# Altium footprint library Terminal_Block.PcbLib: 61 footprints (part 3 of 4)
Each footprint in its own frame and in the unit in brackets; x right, y up, seen from the top. Pads: shape width x height; smd on the part's side, far side on the other; paste and mask are expansions set on the pad; w line width, h text height; cw(c..) or ccw(c..) is an arc to the next point about the centre after c.
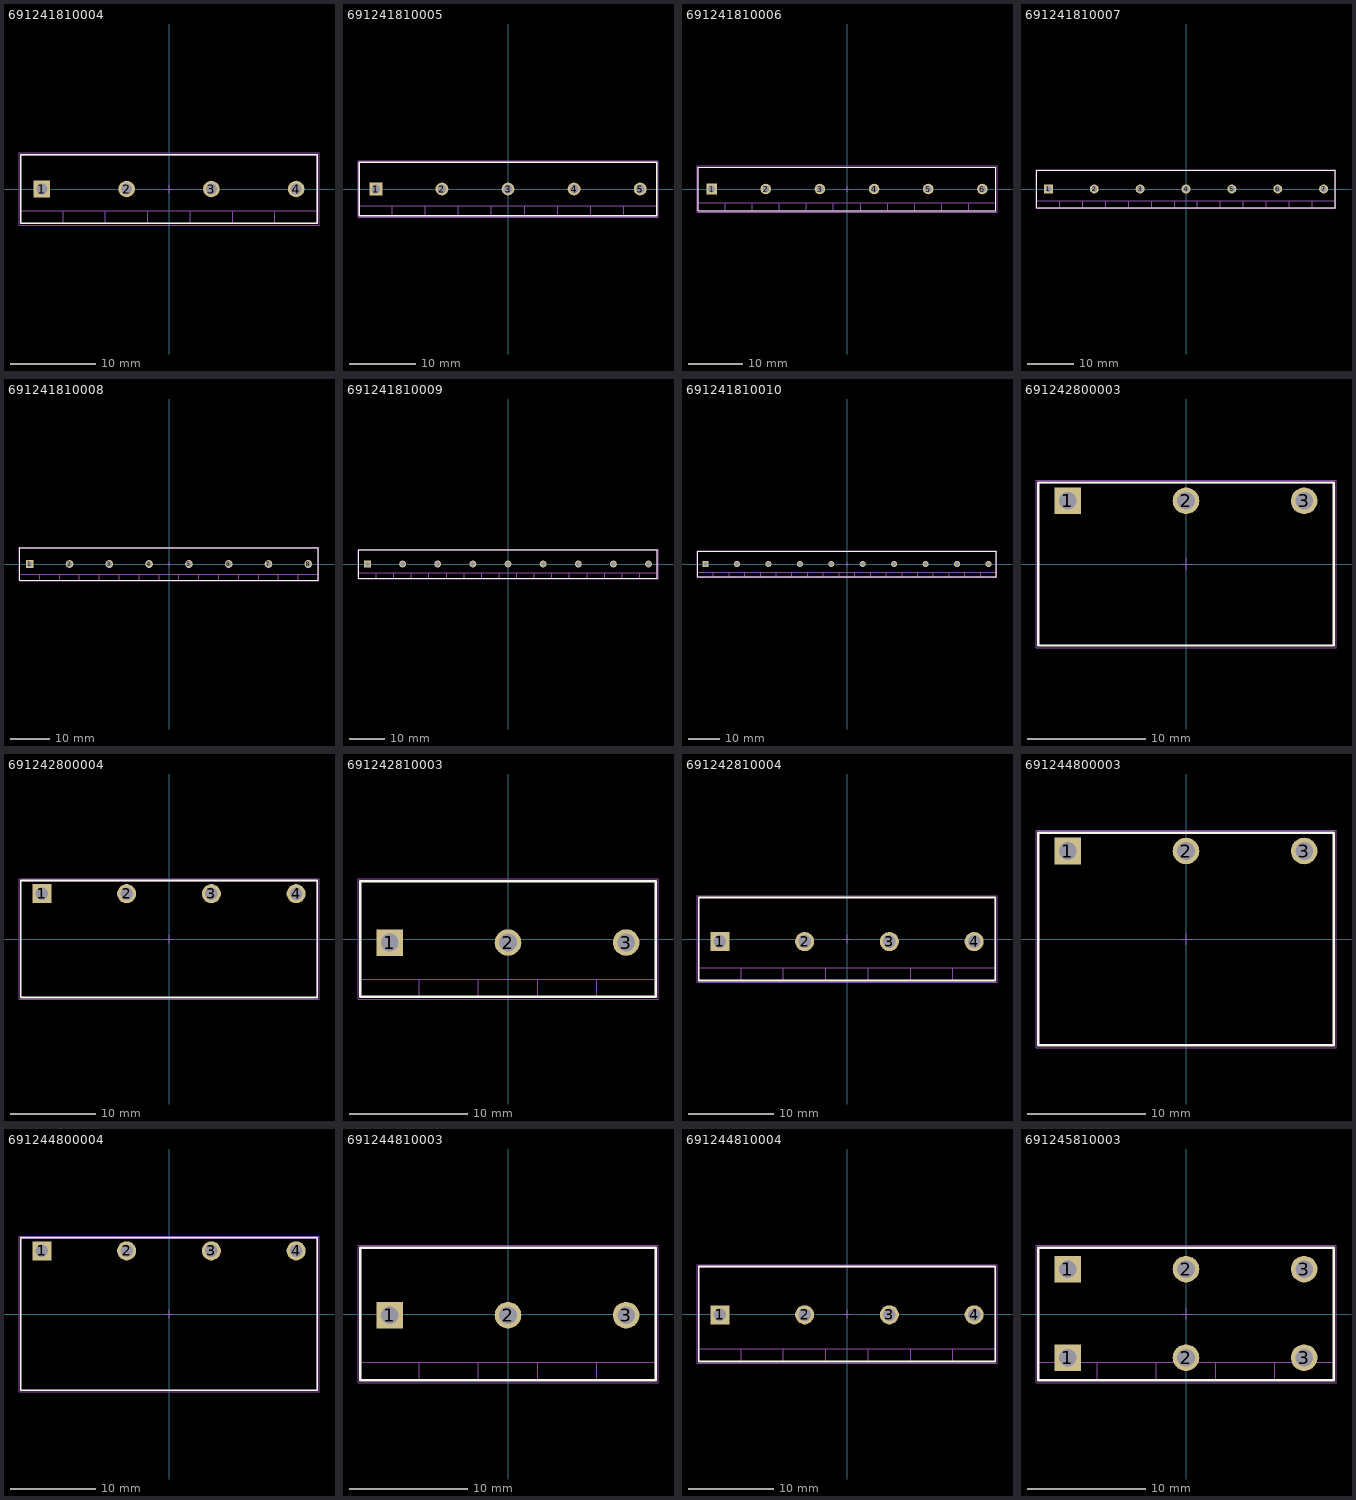
[diagram p2: the footprints below, top view; thin cyan lines are the x and y axes]

## 691241810004 [mm] "10.00mm Horizontal Cable Entry with Rising Cage Clamp, 04p"
height 10
pads (4):
  rect 1.95x1.95 hole 1.3: 1(-15,0)
  round 1.95 hole 1.3: 2(-5,0) 3(5,0) 4(15,0)
Top Overlay:
  lines w0.2: -17.5,-4.05 -17.5,4.05 17.5,4.05 17.5,-4.05 -17.5,-4.05
Mechanical 13:
  lines w0.1: -17.5,-2.55 17.5,-2.55 ; -12.5,-4.05 -12.5,-2.55 ; -7.5,-4.05 -7.5,-2.55 ; -2.5,-4.05 -2.5,-2.55 ; 2.5,-4.05 2.5,-2.55 ; 7.5,-4.05 7.5,-2.55 ; 12.5,-4.05 12.5,-2.55 ; -17.5,-4.05 17.5,-4.05 17.5,4.05 -17.5,4.05 -17.5,-4.05
Mechanical 15:
  lines w0.05: -0.5,0 0.5,0 ; 0,-0.5 0,0.5 ; -17.7,-4.25 -17.7,4.25 17.7,4.25 17.7,-4.25 -17.7,-4.25
3D body "691241810004.stp": height 10.1, standoff -3.4, extent -17.5,-4.05 17.5,4.05

## 691241810005 [mm] "10.00mm Horizontal Cable Entry with Rising Cage Clamp, 05p"
height 10
pads (5):
  rect 1.95x1.95 hole 1.3: 1(-20,0)
  round 1.95 hole 1.3: 2(-10,0) 3(0,0) 4(10,0) 5(20,0)
Top Overlay:
  lines w0.2: -22.5,-4.05 22.5,-4.05 22.5,4.05 -22.5,4.05 -22.5,-4.05
Mechanical 13:
  lines w0.1: -22.5,-2.55 22.5,-2.55 ; -17.5,-4.05 -17.5,-2.55 ; -12.5,-4.05 -12.5,-2.55 ; -7.5,-4.05 -7.5,-2.55 ; -2.5,-4.05 -2.5,-2.55 ; 2.5,-4.05 2.5,-2.55 ; 7.5,-4.05 7.5,-2.55 ; 12.5,-4.05 12.5,-2.55 ; 17.5,-4.05 17.5,-2.55 ; -22.5,-4.05 -22.5,4.05 22.5,4.05 22.5,-4.05 -22.5,-4.05
Mechanical 15:
  lines w0.05: -0.5,0 0.5,0 ; 0,-0.5 0,0.5 ; -22.7,-4.25 22.7,-4.25 22.7,4.25 -22.7,4.25 -22.7,-4.25
3D body "691241810005.stp": height 10.1, standoff -3.4, extent -22.5,-4.05 22.5,4.05

## 691241810006 [mm] "10.00mm Horizontal Cable Entry with Rising Cage Clamp, 06p"
height 10
pads (6):
  rect 1.95x1.95 hole 1.3: 1(-25,0)
  round 1.95 hole 1.3: 2(-15,0) 3(-5,0) 4(5,0) 5(15,0) 6(25,0)
Top Overlay:
  lines w0.2: -27.5,-4.05 -27.5,4.05 27.5,4.05 27.5,-4.05 -27.5,-4.05
Mechanical 13:
  lines w0.1: -27.5,-2.55 27.5,-2.55 ; -22.5,-4.05 -22.5,-2.55 ; -17.5,-4.05 -17.5,-2.55 ; -12.5,-4.05 -12.5,-2.55 ; -7.5,-4.05 -7.5,-2.55 ; -2.5,-4.05 -2.5,-2.55 ; 2.5,-4.05 2.5,-2.55 ; 7.5,-4.05 7.5,-2.55 ; 12.5,-4.05 12.5,-2.55 ; 17.5,-4.05 17.5,-2.55 ; 22.5,-4.05 22.5,-2.55 ; -27.5,-4.05 27.5,-4.05 27.5,4.05 -27.5,4.05 -27.5,-4.05
Mechanical 15:
  lines w0.05: -0.5,0 0.5,0 ; 0,-0.5 0,0.5 ; -27.7,-4.25 -27.7,4.25 27.7,4.25 27.7,-4.25 -27.7,-4.25
3D body "691241810006.stp": height 10.1, standoff -3.4, extent -27.5,-4.05 27.5,4.05

## 691241810007 [mm] "10.00mm Horizontal Cable Entry with Rising Cage Clamp, 07p"
height 10
pads (7):
  rect 1.95x1.95 hole 1.3: 1(-30,0)
  round 1.95 hole 1.3: 2(-20,0) 3(-10,0) 4(0,0) 5(10,0) 6(20,0) 7(30,0)
Top Overlay:
  lines w0.2: -32.5,-4.05 32.5,-4.05 32.5,4.05 -32.5,4.05 -32.5,-4.05
Mechanical 13:
  lines w0.1: -32.5,-2.55 32.5,-2.55 ; -27.5,-4.05 -27.5,-2.55 ; -22.5,-4.05 -22.5,-2.55 ; -17.5,-4.05 -17.5,-2.55 ; -12.5,-4.05 -12.5,-2.55 ; -7.5,-4.05 -7.5,-2.55 ; -2.5,-4.05 -2.5,-2.55 ; 2.5,-4.05 2.5,-2.55 ; 7.5,-4.05 7.5,-2.55 ; 12.5,-4.05 12.5,-2.55 ; 17.5,-4.05 17.5,-2.55 ; 22.5,-4.05 22.5,-2.55 ; 27.5,-4.05 27.5,-2.55 ; -32.5,-4.05 -32.5,4.05 32.5,4.05 32.5,-4.05 -32.5,-4.05
Mechanical 15:
  lines w0.05: -0.5,0 0.5,0 ; 0,-0.5 0,0.5 ; -32.7,-4.25 32.7,-4.25 32.7,4.25 -32.7,4.25 -32.7,-4.25
3D body "691241810007.stp": height 10.1, standoff -3.4, extent -32.5,-4.05 32.5,4.05

## 691241810008 [mm] "10.00mm Horizontal Cable Entry with Rising Cage Clamp, 08p"
height 10
pads (8):
  rect 1.95x1.95 hole 1.3: 1(-35,0)
  round 1.95 hole 1.3: 2(-25,0) 3(-15,0) 4(-5,0) 5(5,0) 6(15,0) 7(25,0) 8(35,0)
Top Overlay:
  lines w0.2: -37.5,-4.05 37.5,-4.05 37.5,4.05 -37.5,4.05 -37.5,-4.05
Mechanical 13:
  lines w0.1: -37.5,-2.55 37.5,-2.55 ; -32.5,-4.05 -32.5,-2.55 ; -27.5,-4.05 -27.5,-2.55 ; -22.5,-4.05 -22.5,-2.55 ; -17.5,-4.05 -17.5,-2.55 ; -12.5,-4.05 -12.5,-2.55 ; -7.5,-4.05 -7.5,-2.55 ; -2.5,-4.05 -2.5,-2.55 ; 2.5,-4.05 2.5,-2.55 ; 7.5,-4.05 7.5,-2.55 ; 12.5,-4.05 12.5,-2.55 ; 17.5,-4.05 17.5,-2.55 ; 22.5,-4.05 22.5,-2.55 ; 27.5,-4.05 27.5,-2.55 ; 32.5,-4.05 32.5,-2.55 ; -37.5,-4.05 -37.5,4.05 37.5,4.05 37.5,-4.05 -37.5,-4.05
Mechanical 15:
  lines w0.05: -0.5,0 0.5,0 ; 0,-0.5 0,0.5 ; -37.7,-4.25 37.7,-4.25 37.7,4.25 -37.7,4.25 -37.7,-4.25
3D body "691241810008.stp": height 10.1, standoff -3.4, extent -37.5,-4.05 37.5,4.05

## 691241810009 [mm] "10.00mm Horizontal Cable Entry with Rising Cage Clamp, 09p"
height 10
pads (9):
  rect 1.95x1.95 hole 1.3: 1(-40,0)
  round 1.95 hole 1.3: 2(-30,0) 3(-20,0) 4(-10,0) 5(0,0) 6(10,0) 7(20,0) 8(30,0) 9(40,0)
Top Overlay:
  lines w0.2: -42.5,-4.05 42.5,-4.05 42.5,4.05 -42.5,4.05 -42.5,-4.05
Mechanical 13:
  lines w0.1: -42.5,-2.55 42.5,-2.55 ; -37.5,-4.05 -37.5,-2.55 ; -32.5,-4.05 -32.5,-2.55 ; -27.5,-4.05 -27.5,-2.55 ; -22.5,-4.05 -22.5,-2.55 ; -17.5,-4.05 -17.5,-2.55 ; -12.5,-4.05 -12.5,-2.55 ; -7.5,-4.05 -7.5,-2.55 ; -2.5,-4.05 -2.5,-2.55 ; 2.5,-4.05 2.5,-2.55 ; 7.5,-4.05 7.5,-2.55 ; 12.5,-4.05 12.5,-2.55 ; 17.5,-4.05 17.5,-2.55 ; 22.5,-4.05 22.5,-2.55 ; 27.5,-4.05 27.5,-2.55 ; 32.5,-4.05 32.5,-2.55 ; 37.5,-4.05 37.5,-2.55 ; -42.5,-4.05 -42.5,4.05 42.5,4.05 42.5,-4.05 -42.5,-4.05
Mechanical 15:
  lines w0.05: -0.5,0 0.5,0 ; 0,-0.5 0,0.5 ; -42.7,-4.25 42.7,-4.25 42.7,4.25 -42.7,4.25 -42.7,-4.25
3D body "691241810009.stp": height 10.1, standoff -3.4, extent -42.5,-4.05 42.5,4.05

## 691241810010 [mm] "10.00mm Horizontal Cable Entry with Rising Cage Clamp, 10p"
height 10
pads (10):
  rect 1.95x1.95 hole 1.3: 1(-45,0)
  round 1.95 hole 1.3: 2(-35,0) 3(-25,0) 4(-15,0) 5(-5,0) 6(5,0) 7(15,0) 8(25,0) 9(35,0) 10(45,0)
Top Overlay:
  lines w0.2: -47.5,-4.05 47.5,-4.05 47.5,4.05 -47.5,4.05 -47.5,-4.05
Mechanical 13:
  lines w0.1: -47.5,-2.55 47.5,-2.55 ; -42.5,-4.05 -42.5,-2.55 ; -37.5,-4.05 -37.5,-2.55 ; -32.5,-4.05 -32.5,-2.55 ; -27.5,-4.05 -27.5,-2.55 ; -22.5,-4.05 -22.5,-2.55 ; -17.5,-4.05 -17.5,-2.55 ; -12.5,-4.05 -12.5,-2.55 ; -7.5,-4.05 -7.5,-2.55 ; -2.5,-4.05 -2.5,-2.55 ; 2.5,-4.05 2.5,-2.55 ; 7.5,-4.05 7.5,-2.55 ; 12.5,-4.05 12.5,-2.55 ; 17.5,-4.05 17.5,-2.55 ; 22.5,-4.05 22.5,-2.55 ; 27.5,-4.05 27.5,-2.55 ; 32.5,-4.05 32.5,-2.55 ; 37.5,-4.05 37.5,-2.55 ; 42.5,-4.05 42.5,-2.55 ; -47.5,-4.05 -47.5,4.05 47.5,4.05 47.5,-4.05 -47.5,-4.05
Mechanical 15:
  lines w0.05: -0.5,0 0.5,0 ; 0,-0.5 0,0.5 ; -47.7,-4.25 47.7,-4.25 47.7,4.25 -47.7,4.25 -47.7,-4.25
3D body "691241810010.stp": height 10.1, standoff -3.4, extent -47.5,-4.05 47.5,4.05

## 691242800003 [mm] "Serie 2428-10.00mm Vertical Cable Entry with Rising Cage Clamp, 3 pins"
height 9
pads (3):
  rect 2.25x2.25 hole 1.5: 1(-10,5.35)
  round 2.25 hole 1.5: 2(0,5.35) 3(10,5.35)
Top Overlay:
  lines w0.2: -12.5,-6.9 -12.5,6.9 12.5,6.9 12.5,-6.9 -12.5,-6.9
Mechanical 13:
  lines w0.1: -12.5,-6.9 12.5,-6.9 12.5,6.9 -12.5,6.9 -12.5,-6.9
Mechanical 15:
  lines w0.05: -0.5,0 0.5,0 ; 0,-0.5 0,0.5 ; -12.7,-7.1 -12.7,7.1 12.7,7.1 12.7,-7.1 -12.7,-7.1
3D body "691242800003.stp": height 10, standoff -3.3, extent -12.5,-6.9 12.5,6.9

## 691242800004 [mm] "Serie 2428-10.00mm Vertical Cable Entry with Rising Cage Clamp, 4 pins"
height 9
pads (4):
  rect 2.25x2.25 hole 1.5: 1(-15,5.35)
  round 2.25 hole 1.5: 2(-5,5.35) 3(5,5.35) 4(15,5.35)
Top Overlay:
  lines w0.2: -17.5,-6.9 17.5,-6.9 17.5,6.9 -17.5,6.9 -17.5,-6.9
Mechanical 13:
  lines w0.1: -17.5,-6.9 -17.5,6.9 17.5,6.9 17.5,-6.9 -17.5,-6.9
Mechanical 15:
  lines w0.05: -0.5,0 0.5,0 ; 0,-0.5 0,0.5 ; -17.7,-7.1 17.7,-7.1 17.7,7.1 -17.7,7.1 -17.7,-7.1
3D body "691242800004.stp": height 10, standoff -3.3, extent -17.5,-6.9 17.5,6.9

## 691242810003 [mm] "Serie 2428 - 10.00 mm _ 3 pins"
height 13.8
pads (3):
  rect 2.25x2.25 hole 1.5: 1(-10,-0.3)
  round 2.25 hole 1.5: 2(0,-0.3) 3(10,-0.3)
Top Overlay:
  lines w0.2: -12.5,-4.9 12.5,-4.9 12.5,4.9 -12.5,4.9 -12.5,-4.9
Mechanical 13:
  lines w0.1: -12.5,-3.4 12.5,-3.4 ; -7.5,-4.9 -7.5,-3.4 ; -2.5,-4.9 -2.5,-3.4 ; 2.5,-4.9 2.5,-3.4 ; 7.5,-4.9 7.5,-3.4 ; -12.5,-4.9 -12.5,4.9 12.5,4.9 12.5,-4.9 -12.5,-4.9
Mechanical 15:
  lines w0.05: -0.5,0 0.5,0 ; 0,-0.5 0,0.5 ; -12.7,-5.1 12.7,-5.1 12.7,5.1 -12.7,5.1 -12.7,-5.1
3D body "691242810003.stp": height 13.9, standoff -3.4, extent -12.5,-4.9 12.5,4.9

## 691242810004 [mm] "Serie 2428 - 10.00 mm _ 4 pins"
height 13.8
pads (4):
  rect 2.25x2.25 hole 1.5: 1(-15,-0.3)
  round 2.25 hole 1.5: 2(-5,-0.3) 3(5,-0.3) 4(15,-0.3)
Top Overlay:
  lines w0.2: -17.5,-4.9 17.5,-4.9 17.5,4.9 -17.5,4.9 -17.5,-4.9
Mechanical 13:
  lines w0.1: -17.5,-3.4 17.5,-3.4 ; -12.5,-4.9 -12.5,-3.4 ; -7.5,-4.9 -7.5,-3.4 ; -2.5,-4.9 -2.5,-3.4 ; 2.5,-4.9 2.5,-3.4 ; 7.5,-4.9 7.5,-3.4 ; 12.5,-4.9 12.5,-3.4 ; -17.5,-4.9 -17.5,4.9 17.5,4.9 17.5,-4.9 -17.5,-4.9
Mechanical 15:
  lines w0.05: -0.5,0 0.5,0 ; 0,-0.5 0,0.5 ; -17.7,-5.1 17.7,-5.1 17.7,5.1 -17.7,5.1 -17.7,-5.1
3D body "691242810004.stp": height 13.9, standoff -3.4, extent -17.5,-4.9 17.5,4.9

## 691244800003 [mm] "Serie 2448 - 10.00 mm _ 3 pins"
height 11.2
pads (3):
  rect 2.25x2.25 hole 1.5: 1(-10,7.45)
  round 2.25 hole 1.5: 2(0,7.45) 3(10,7.45)
Top Overlay:
  lines w0.2: -12.5,-9 -12.5,9 12.5,9 12.5,-9 -12.5,-9
Mechanical 13:
  lines w0.1: -12.5,-9 12.5,-9 12.5,9 -12.5,9 -12.5,-9
Mechanical 15:
  lines w0.05: -0.5,0 0.5,0 ; 0,-0.5 0,0.5 ; -12.7,-9.2 -12.7,9.2 12.7,9.2 12.7,-9.2 -12.7,-9.2
3D body "691244800003.stp": height 11.3, standoff -3.9, extent -12.5,-9.05 12.5,8.95

## 691244800004 [mm] "Serie 2448 - 10.00 mm _ 4 pins"
height 11.2
pads (4):
  rect 2.25x2.25 hole 1.5: 1(-15,7.45)
  round 2.25 hole 1.5: 2(-5,7.45) 3(5,7.45) 4(15,7.45)
Top Overlay:
  lines w0.2: -17.5,-9 17.5,-9 17.5,9 -17.5,9 -17.5,-9
Mechanical 13:
  lines w0.1: -17.5,-9 -17.5,9 17.5,9 17.5,-9 -17.5,-9
Mechanical 15:
  lines w0.05: -0.5,0 0.5,0 ; 0,-0.5 0,0.5 ; -17.7,-9.2 17.7,-9.2 17.7,9.2 -17.7,9.2 -17.7,-9.2
3D body "691244800004.stp": height 11.3, standoff -3.9, extent -17.5,-9.05 17.5,8.95

## 691244810003 [mm] "Serie 2448 - 10.00 mm _ 3 pins"
height 18
pads (3):
  rect 2.25x2.25 hole 1.5: 1(-10,-0.1)
  round 2.25 hole 1.5: 2(0,-0.1) 3(10,-0.1)
Top Overlay:
  lines w0.2: -12.5,-5.6 12.5,-5.6 12.5,5.6 -12.5,5.6 -12.5,-5.6
Mechanical 13:
  lines w0.1: -12.5,-4.1 12.5,-4.1 ; -7.5,-5.6 -7.5,-4.1 ; -2.5,-5.6 -2.5,-4.1 ; 2.5,-5.6 2.5,-4.1 ; 7.5,-5.6 7.5,-4.1 ; -12.5,-5.6 -12.5,5.6 12.5,5.6 12.5,-5.6 -12.5,-5.6
Mechanical 15:
  lines w0.05: -0.5,0 0.5,0 ; 0,-0.5 0,0.5 ; -12.7,-5.8 -12.7,5.8 12.7,5.8 12.7,-5.8 -12.7,-5.8
3D body "691244810003.stp": height 18.1, standoff -3.9, extent -12.5,-5.6 12.5,5.6

## 691244810004 [mm] "Serie 2448 - 10.00 mm _ 4 pins"
height 18
pads (4):
  rect 2.25x2.25 hole 1.5: 1(-15,-0.1)
  round 2.25 hole 1.5: 2(-5,-0.1) 3(5,-0.1) 4(15,-0.1)
Top Overlay:
  lines w0.2: -17.5,-5.6 17.5,-5.6 17.5,5.6 -17.5,5.6 -17.5,-5.6
Mechanical 13:
  lines w0.1: -17.5,-4.1 17.5,-4.1 ; -12.5,-5.6 -12.5,-4.1 ; -7.5,-5.6 -7.5,-4.1 ; -2.5,-5.6 -2.5,-4.1 ; 2.5,-5.6 2.5,-4.1 ; 7.5,-5.6 7.5,-4.1 ; 12.5,-5.6 12.5,-4.1 ; -17.5,-5.6 -17.5,5.6 17.5,5.6 17.5,-5.6 -17.5,-5.6
Mechanical 15:
  lines w0.05: -0.5,0 0.5,0 ; 0,-0.5 0,0.5 ; -17.7,-5.8 -17.7,5.8 17.7,5.8 17.7,-5.8 -17.7,-5.8
3D body "691244810004.stp": height 18.1, standoff -3.9, extent -17.5,-5.6 17.5,5.6

## 691245810003 [mm] "Serie 2458-10.00mm Horizontal Cable Entry with Rising Cage Clamp, 3 pins"
height 18
pads (6):
  rect 2.25x2.25 hole 1.5: 1(-10,-3.7) 1(-10,3.8)
  round 2.25 hole 1.5: 2(0,-3.7) 2(0,3.8) 3(10,-3.7) 3(10,3.8)
Top Overlay:
  lines w0.2: -12.5,-5.6 12.5,-5.6 12.5,5.6 -12.5,5.6 -12.5,-5.6
Mechanical 13:
  lines w0.1: -12.5,-4.1 12.5,-4.1 ; -7.5,-5.6 -7.5,-4.1 ; -2.5,-5.6 -2.5,-4.1 ; 2.5,-5.6 2.5,-4.1 ; 7.5,-5.6 7.5,-4.1 ; -12.5,-5.6 -12.5,5.6 12.5,5.6 12.5,-5.6 -12.5,-5.6
Mechanical 15:
  lines w0.05: -0.5,0 0.5,0 ; 0,-0.5 0,0.5 ; -12.7,-5.8 -12.7,5.8 12.7,5.8 12.7,-5.8 -12.7,-5.8
3D body "691245810003.stp": height 18.02, standoff -3.48, extent -12.5,-5.6 12.5,5.6